# Altium footprint library XC6210B502PR-G.PCBLIB: 1 footprints
Each footprint in its own frame and in the unit in brackets; x right, y up, seen from the top. Pads: shape width x height; smd on the part's side, far side on the other; paste and mask are expansions set on the pad; w line width, h text height; cw(c..) or ccw(c..) is an arc to the next point about the centre after c.
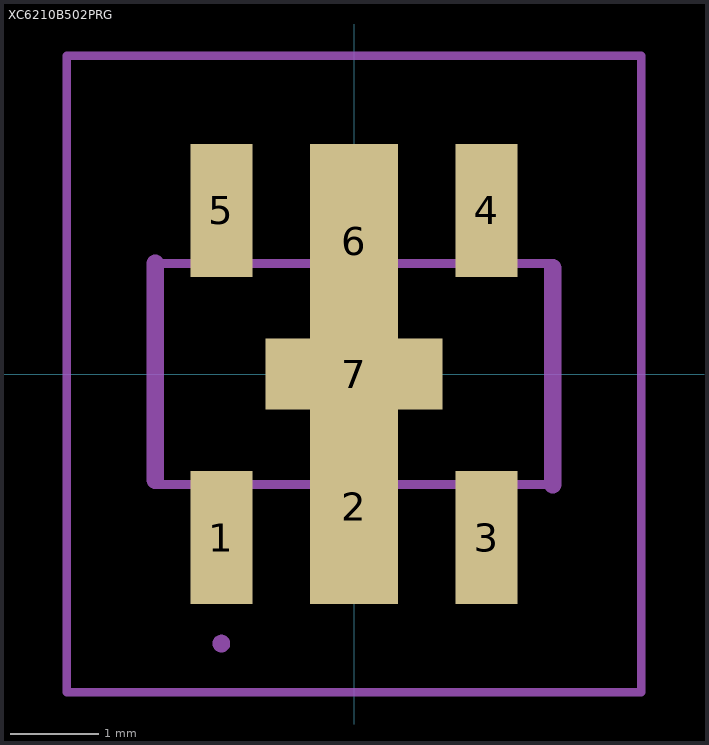
[diagram p0: the footprint, top view; thin cyan lines are the x and y axes]

## XC6210B502PRG [mm]
pads (7):
  rect 0.7x1.5 smd: 1(-1.5,-1.85) 3(1.5,-1.85) 4(1.5,1.85) 5(-1.5,1.85)
  rect 1x2.2 smd: 2(0,-1.5) 6(0,1.5)
  rect 2x0.8 smd: 7(0,0)
tDocu:
  lines w0.1: -3.25,-3.6 3.25,-3.6 3.25,3.6 -3.25,3.6 -3.25,-3.6 ; -2.25,-1.25 2.25,-1.25 2.25,1.25 -2.25,1.25 -2.25,-1.25
tPlace:
  lines w0.1: -1.5,-3.1 cw(c-1.5,-3.05) -1.5,-3 cw(c-1.5,-3.05) -1.5,-3.1
  lines w0.2: -2.25,-1.2 -2.25,1.25 ; 2.25,-1.25 2.25,1.2